# Altium footprint library Tag101 Rev16.PcbLib: 17 footprints (part 1 of 2)
Each footprint in its own frame and in the unit in brackets; x right, y up, seen from the top. Pads: shape width x height; smd on the part's side, far side on the other; paste and mask are expansions set on the pad; w line width, h text height; cw(c..) or ccw(c..) is an arc to the next point about the centre after c.
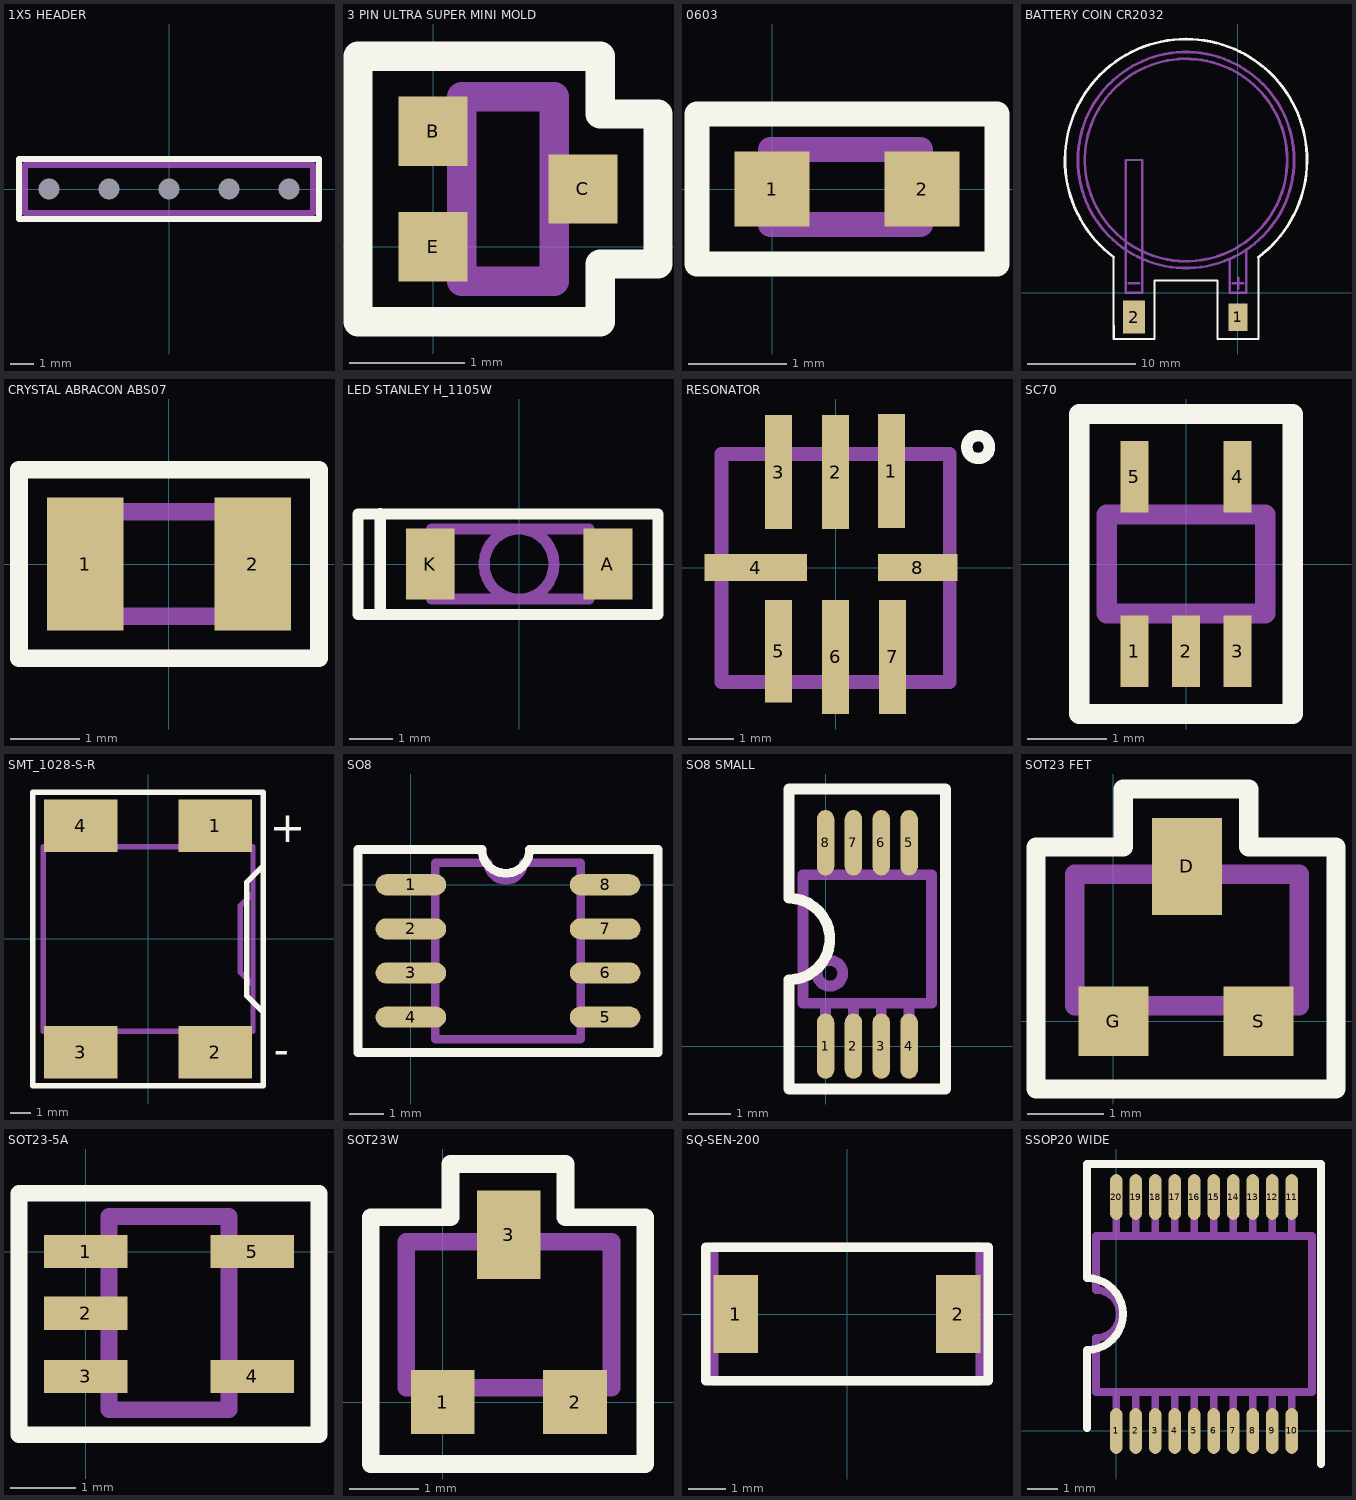
[diagram p0: the footprints below, top view; thin cyan lines are the x and y axes]

## 1X5 HEADER [mil]
pads (5):
  rect 0x0 / inner rect 0x0 / far side rect 62x62 hole 35: 1(-200,0)
  round 0 / inner round 0 / far side round 62 hole 35: 2(-100,0) 3(0,0) 4(100,0) 5(200,0)
Top Overlay:
  lines w10: -250,-50 250,-50 250,50 -250,50 -250,-50
Mechanical 1:
  lines w10: -240,-40 240,-40 240,40 -240,40 -240,-40

## 3 PIN ULTRA SUPER MINI MOLD [mm]
pads (3):
  rect 0.6x0.6 smd: B(0,1) C(1.3,0.5) E(0,0)
Top Overlay:
  lines w0.254: -0.65,-0.65 -0.65,1.6 -0.65,1.65 1.45,1.65 1.45,1.15 1.95,1.15 1.95,-0.15 1.45,-0.15 1.45,-0.65 -0.65,-0.65
Mechanical 1:
  lines w0.254: 0.25,-0.15 -0.15,-0.15 -0.15,0.15 0.25,0.15 ; 0.25,0.85 -0.15,0.85 -0.15,1.15 0.25,1.15 ; 1.05,0.35 1.45,0.35 1.45,0.65 1.05,0.65 ; 0.25,-0.3 1.05,-0.3 1.05,1.3 0.25,1.3 0.25,-0.3

## 0603 [mil]
pads (2):
  rect 30x30 smd: 1(0,0) 2(60,0)
Top Overlay:
  lines w10: -30,-30 -30,0 -30,30 90,30 90,-30 -30,-30
Mechanical 1:
  lines w10: -0.53,-14.25 59.47,-14.25 59.47,15.75 -0.53,15.75 -0.53,-14.25

## BATTERY COIN CR2032 [mil]
pads (2):
  rect 70x100 smd: 1(0,-89)
  rect 80x120 smd: 2(-380,-89)
Top Overlay:
  lines w8: -454.82,130.73 -454.62,-65 -454,-169 -305,-169 -305,-65 -305,45 -75,45 -75,-65 -75,-169 75,-169 74.62,-65 74.44,130.23
  lines w10: -454.82,130.73 cw(c-190,485) -190,927.31 ; -190,927.49 cw(c-190,485) 74.44,130.23
Mechanical 1:
  circle w10: c-190,485 r370
  circle w10: c-190,485 r395
  lines w8: -400,35 -360,35 ; -30,120 -30,0 ; -20,35 20,35 ; 1,15 1,55 ; 30,155 30,0 ; -30,0 0,0 30,0 ; -30,0 30,0 ; -30,0 30,0 ; -410,0 -410,485 -380,485 -350,485 -350,0 -380,0 -410,0

## CRYSTAL ABRACON ABS07 [mm]
pads (2):
  rect 1.1x1.9 smd: 1(-1.2,0) 2(1.2,0)
Top Overlay:
  lines w0.254: -2.15,-1.35 -2.15,0 -2.15,1.35 0,1.35 2.15,1.35 2.15,0 2.15,-1.35 0,-1.35 -2.15,-1.35
Mechanical 1:
  lines w0.254: -1.6,-0.75 -1.6,0 -1.6,0.75 0,0.75 1.6,0.75 1.6,0 1.6,-0.75 0,-0.75 -1.6,-0.75

## LED STANLEY H_1105W [mil]
pads (2):
  rect 44x64 smd: A(80,0) K(-80,0)
Top Overlay:
  lines w10: -125,-45 -125,45.55 ; -145,-45.28 -131.89,-45.28 -114.17,-45.28 0,-45.28 114.17,-45.28 125,-45.28 125,45.28 114.17,45.28 0,45.28 -114.17,45.28 -131.89,45.28 -145,45.28 -145,-45.28
Mechanical 1:
  circle w10: c0,0 r31.5
  lines w10: 0,31.5 62.99,31.5 ; -62.99,-31.5 62.99,-31.5 62.99,31.5 ; -62.99,-31.5 -62.99,31.5 ; -62.99,-31.5 -78.74,-31.5 -78.74,31.5 -62.99,31.5 ; -62.99,31.5 62.99,31.5

## RESONATOR [mm]
pads (8):
  rect 0.6x2.54 smd: 1(1.245,2.159) 2(0,2.134) 3(-1.27,2.134) 6(0,-1.983) 7(1.27,-1.983)
  rect 2.286x0.6 smd: 4(-1.776,0.008)
  rect 0.6x2.286 smd: 5(-1.27,-1.856)
  rect 1.778x0.6 smd: 8(1.831,0.008)
Top Overlay:
  circle w0.254: c3.175,2.692 r0.254
Mechanical 1:
  lines w0.305: -2.54,-2.54 -2.54,2.54 2.54,2.54 2.54,0 2.54,-2.54 -2.54,-2.54

## SC70 [mm]
pads (5):
  rect 0.35x0.9 smd: 1(-0.65,-1.1) 2(0,-1.1) 3(0.65,-1.1) 4(0.65,1.1) 5(-0.65,1.1)
Top Overlay:
  lines w0.254: -1.346,-1.892 0,-1.892 1.346,-1.892 1.346,0 1.346,1.892 0,1.892 -1.346,1.892 -1.346,0 -1.346,-1.892
Mechanical 1:
  lines w0.254: -0.65,-1.1 -0.65,-0.625 ; -0.65,0.625 -0.65,1.1 ; 0,-1.1 0,-0.625 ; 0,0.625 -1,0.625 ; 0.65,-1.1 0.65,-0.625 ; 0.65,0.625 0.65,1.1 ; 1,0 1,-0.625 ; -1,0.625 -1,-0.625 1,-0.625 ; -1,0.625 1,0.625 1,-0.625

## SMT_1028-S-R [mm] "TRANSDUCER"
pads (4):
  rect 3.5x2.5 smd: 1(3.2,5.4) 2(3.2,-5.4) 3(-3.2,-5.4) 4(-3.2,5.4)
Top Overlay:
  lines w0.254: 5.5,-3.5 5.5,3.5 ; 5.5,-3.5 5.5,-7 -5.5,-7 -5.5,7 5.5,7 5.5,3.5 ; 5.5,-3.5 4.7,-2.7 4.7,2.7 5.5,3.5
  text "+" at 5.8,4.6 h1.5
  text "-" at 6,-6 h1.5
Mechanical 1:
  lines w0.254: -3.7,-4.4 -3.7,-5.4 -2.7,-5.4 -2.7,-4.4 ; -3.7,4.4 -3.7,5.4 -2.7,5.4 -2.7,4.4 ; 2.7,-4.4 2.7,-5.4 3.7,-5.4 3.7,-4.4 ; 2.7,4.4 2.7,5.4 3.7,5.4 3.7,4.4 ; 5,-2.2 5,2.2 ; 5,-2.2 5,-4.4 -5,-4.4 -5,4.4 5,4.4 5,2.2 ; 5,-2.2 4.4,-1.6 4.4,1.6 5,2.2
  text "+" at 2.6,2.4 h1.5
  text "-" at 2.5,-3.7 h1.5
Mechanical 8:
  text ".Designator" at -1.108,-0.298 h1.02
Mechanical 9:
  text ".Comment" at -3.8,-2.6 h1.02

## SO8 [mil]
pads (8):
  oval 80x24 smd: 1(0,0) 2(0,-50) 3(0,-100) 4(0,-150) 5(220,-150) 6(220,-100) 7(220,-50) 8(220,0)
Top Overlay:
  lines w10: -60,-190 280,-190 280,40 134.54,40 cw(c107.5,40) 80.46,40 -60,40 -60,-190
Mechanical 1:
  lines w10: 27.5,-155 0,-155 0,-145 27.5,-145 ; 27.5,-105 0,-105 0,-95 27.5,-95 ; 27.5,-55 0,-55 0,-45 27.5,-45 ; 27.5,-5 0,-5 0,5 27.5,5 ; 192.5,-155 220,-155 220,-145 192.5,-145 ; 192.5,-105 220,-105 220,-95 192.5,-95 ; 192.5,-55 220,-55 220,-45 192.5,-45 ; 192.5,-5 220,-5 220,5 192.5,5 ; 27.5,-175 27.5,25 87.5,25 ccw(c107.5,25) 127.5,25 192.5,25 192.5,-175 27.5,-175

## SO8 SMALL [mil]
pads (8):
  oval 16x60 smd: 1(0,0) 2(25.59,0) 3(51.18,0) 4(76.77,0) 5(76.77,186.85) 6(51.18,186.85) 7(25.59,186.85) 8(0,186.85)
Top Overlay:
  lines w10: -33.46,-39.37 -33.46,61.02 ccw(c-33.46,98.43) -33.46,135.83 -33.46,236.22 74.8,236.22 110.24,236.22 110.24,153.54 110.24,-39.37 1.97,-39.37 -33.46,-39.37
Mechanical 1:
  circle w10: c3.94,66.93 r11.81
  lines w10: 0,0 0,39.37 ; 0,157.48 0,196.85 ; 25.59,0 25.59,39.37 ; 25.59,157.48 25.59,196.85 ; 51.18,0 51.18,39.37 ; 51.18,157.48 51.18,196.85 ; 76.77,0 76.77,39.37 ; 76.77,157.48 76.77,196.85 ; 97.44,98.43 97.44,157.48 ; 97.44,157.48 -20.67,157.48 -20.67,39.37 97.44,39.37 97.44,157.48

## SOT23 FET [mil]
pads (3):
  rect 36x50 smd: D(38,80)
  rect 36x36 smd: G(0,0) S(75,0)
Top Overlay:
  lines w10: -40,-35 -40,90 5,90 5,120 23,120 70,120 70,90 115,90 115,-35 -40,-35
Mechanical 1:
  lines w10: -10,8 -10,-8 10,-8 10,8 ; 30,76 30,94 46,94 46,76 ; 66,8 66,-8 84,-8 84,8 ; -20,8 -20,76 96,76 96,8 -20,8

## SOT23-5A [mil]
pads (5):
  rect 50x20 smd: 1(0,0) 2(0,-37) 3(0,-75) 4(100,-75) 5(100,0)
Top Overlay:
  lines w10: -40,-110 -40,-75 -40,35 140,35 140,-110 -40,-110
Mechanical 1:
  lines w10: 14,-79 -8,-79 -8,-71 12,-71 14,-69 ; 14,-41 -8,-41 -8,-33 14,-33 ; 14,-3 -8,-3 -8,5 14,5 ; 86,-79 108,-79 108,-71 86,-71 ; 86,-3 108,-3 108,5 86,5 ; 14,-95 86,-95 86,21 14,21 14,-95

## SOT23W [mil]
pads (3):
  rect 36x36 smd: 1(0,0) 2(74.8,0)
  rect 36x50 smd: 3(37.4,94.49)
Top Overlay:
  lines w10: -40.6,-35 -40.6,104.49 4.4,104.49 4.4,134.49 22.4,134.49 69.4,134.49 69.4,104.49 114.4,104.49 114.4,-35 -40.6,-35
Mechanical 1:
  lines w10: -10.6,8 -10.6,-8 9.4,-8 9.4,8 ; 29.4,90.49 29.4,108.49 45.4,108.49 45.4,90.49 ; 65.4,8 65.4,-8 83.4,-8 83.4,8 ; -20.6,8 -20.6,90.49 95.4,90.49 95.4,8 -20.6,8

## SQ-SEN-200 [mm]
pads (2):
  rect 1.2x2.1 smd: 1(-3,0) 2(3,0)
Top Overlay:
  lines w0.254: -3.81,-1.8 3.81,-1.8 3.81,1.8 -3.81,1.8 -3.81,-1.8
Mechanical 1:
  lines w0.254: -3.6,-1.8 -3.6,1.8 3.6,1.8 3.6,-1.8 -3.6,-1.8

## SSOP20 WIDE [mil]
pads (20):
  oval 16x60 smd: 1(0,0) 2(25.59,0) 3(51.18,0) 4(76.77,0) 5(102.36,0) 6(127.95,0) 7(153.54,0) 8(179.13,0) 9(204.72,0) 10(230.31,0) 11(230.31,307.09) 12(204.72,307.09) 13(179.13,307.09) 14(153.54,307.09) 15(127.95,307.09) 16(102.36,307.09) 17(76.77,307.09) 18(51.18,307.09) 19(25.59,307.09) 20(0,307.09)
Top Overlay:
  lines w10: -38.39,3.94 -38.39,35.43 -38.39,106.3 ccw(c-38.39,153.54) -38.39,200.79 -38.39,283.46 -38.39,350.39 268.7,350.39 268.7,271.65 268.7,-43.31
Mechanical 1:
  lines w10: 0,-7.87 0,51.18 ; 0,255.91 0,314.96 ; 25.59,-7.87 25.59,51.18 ; 25.59,255.91 25.59,314.96 ; 51.18,-7.87 51.18,51.18 ; 51.18,255.91 51.18,314.96 ; 76.77,-7.87 76.77,51.18 ; 76.77,255.91 76.77,314.96 ; 102.36,-7.87 102.36,51.18 ; 102.36,255.91 102.36,314.96 ; 127.95,-7.87 127.95,51.18 ; 127.95,255.91 127.95,314.96 ; 153.54,-7.87 153.54,51.18 ; 153.54,255.91 153.54,314.96 ; 179.13,-7.87 179.13,51.18 ; 179.13,255.91 179.13,314.96 ; 204.72,-7.87 204.72,51.18 ; 204.72,255.91 204.72,314.96 ; 230.31,-7.87 230.31,51.18 ; 230.31,255.91 230.31,314.96 ; -26.57,51.18 115.16,51.18 256.89,51.18 256.89,153.54 256.89,255.91 115.16,255.91 -26.57,255.91 -26.57,185.04 cw(c-26.57,153.54) -26.57,122.05 -26.57,51.18